# EAGLE library part HEADERS-FEMALE (library uRings_SE_Library)
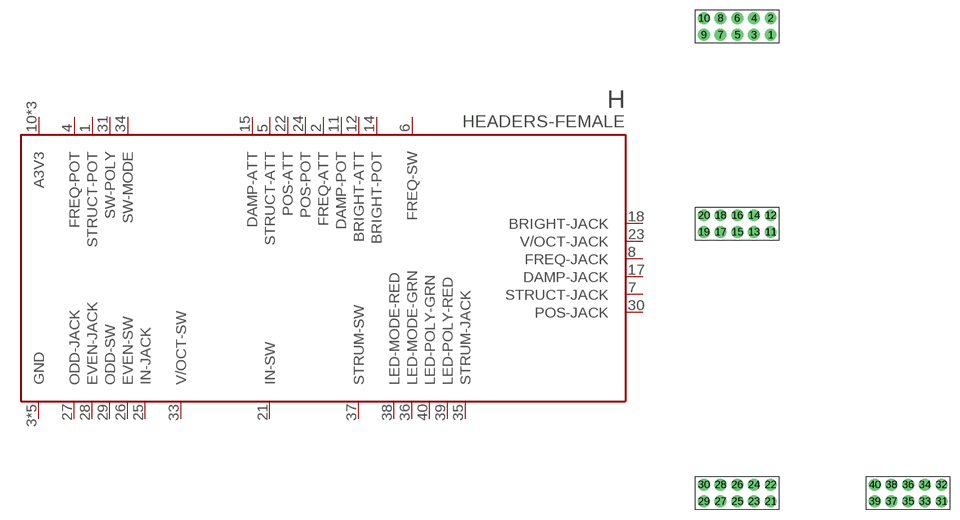
[diagram p8: symbol with the pads of HEADERS-FEMALE; footprint HEADERS-FEMALE]

Designator prefix H

## HEADERS-FEMALE  [HEADERS-FEMALE]
1  STRUCT-POT
2  FREQ-ATT
3  GND
4  FREQ-POT
5  STRUCT-ATT
6  FREQ-SW
7  STRUCT-JACK
8  FREQ-JACK
9  GND
10  A3V3
11  DAMP-POT
12  BRIGHT-ATT
13  GND
14  BRIGHT-POT
15  DAMP-ATT
16  A3V3
17  DAMP-JACK
18  BRIGHT-JACK
19  GND
20  A3V3
21  IN-SW
22  POS-ATT
23  V/OCT-JACK
24  POS-POT
25  IN-JACK
26  EVEN-SW
27  ODD-JACK
28  EVEN-JACK
29  ODD-SW
30  POS-JACK
31  SW-POLY
32  GND
33  V/OCT-SW
34  SW-MODE
35  STRUM-JACK
36  LED-MODE-GRN
37  STRUM-SW
38  LED-MODE-RED
39  LED-POLY-RED
40  LED-POLY-GRN

## Footprint HEADERS-FEMALE (pad centres in mm)
drill 1 pad 1.8: 1 12.08,97.23; 2 12.08,99.77; 3 9.54,97.23; 4 9.54,99.77; 5 7,97.23; 6 7,99.77; 7 4.46,97.23; 8 4.46,99.77; 9 1.92,97.23; 10 1.92,99.77; 11 12.08,67.23; 12 12.08,69.77; 13 9.54,67.23; 14 9.54,69.77; 15 7,67.23; 16 7,69.77; 17 4.46,67.23; 18 4.46,69.77; 19 1.92,67.23; 20 1.92,69.77; 21 12.08,26.23; 22 12.08,28.77; 23 9.54,26.23; 24 9.54,28.77; 25 7,26.23; 26 7,28.77; 27 4.46,26.23; 28 4.46,28.77; 29 1.92,26.23; 30 1.92,28.77; 31 38.08,26.23; 32 38.08,28.77; 33 35.54,26.23; 34 35.54,28.77; 35 33,26.23; 36 33,28.77; 37 30.46,26.23; 38 30.46,28.77; 39 27.92,26.23; 40 27.92,28.77